# Altium footprint library Resistors.PcbLib: 19 footprints (part 2 of 2)
Each footprint in its own frame and in the unit in brackets; x right, y up, seen from the top. Pads: shape width x height; smd on the part's side, far side on the other; paste and mask are expansions set on the pad; w line width, h text height; cw(c..) or ccw(c..) is an arc to the next point about the centre after c.
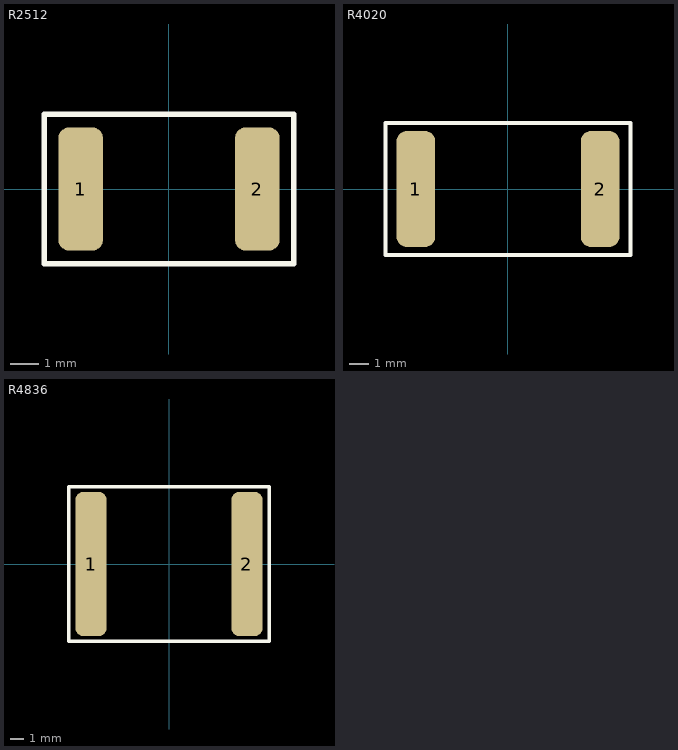
[diagram p1: the footprints below, top view; thin cyan lines are the x and y axes]

## R2512 [mm] "Р1-12-1,0 Вт// Масса 0,1г// UMI"
height 0.8
pads (2):
  rrect50% 1.6x4.4 smd: 1(-3.15,0) 2(3.15,0)
Top Overlay:
  lines w0.2: -4.445,-2.667 -4.445,2.667 4.445,2.667 4.445,-2.667 -4.445,-2.667
3D body "R2512.STEP": height 0.6, standoff 0, extent -3.175,-1.601 3.175,1.601

## R4020 [mm] "Р1-12-2,0 Вт// Масса 0,5г// LIV"
height 0.8
pads (2):
  rrect50% 2x6 smd: 1(-4.775,0) 2(4.775,0)
Top Overlay:
  lines w0.2: -6.35,-3.429 6.35,-3.429 6.35,3.429 -6.35,3.429 -6.35,-3.429
3D body "4020.STEP": height 0.8, standoff 0, extent -5,-2.5 5,2.5

## R4836 [mm] "Р1-112-5,0 Вт// SNV"
height 0.8
pads (2):
  rrect50% 2.25x10.4 smd: 1(-5.625,0) 2(5.625,0)
Top Overlay:
  lines w0.25: -7.239,-5.588 -7.239,5.588 7.239,5.588 7.239,-5.588 -7.239,-5.588
3D body "Р1-112-5,0.STEP": height 0.6, standoff 0, extent -6,-4.5 6,4.5